# EAGLE library part TLV9102IPWR (library TLV9102IPWR)
Dual 1MHz, 16-V rail-to-rail input/output, low-offset voltage, low-power op amp Source: Datasheet <http://www.ti.com/lit/gpn/TLV9102>
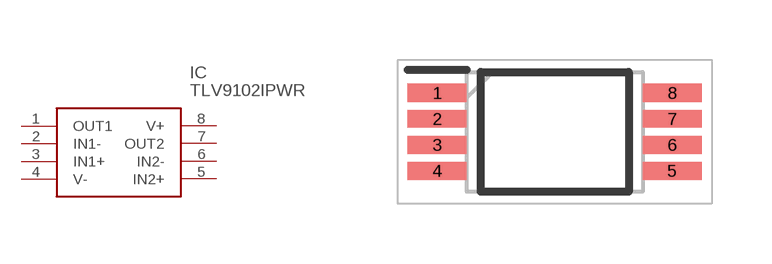
[diagram p0: symbol with the pads of SOP65P640X120-8N; footprint SOP65P640X120-8N]

Designator prefix IC

## TLV9102IPWR (Description: Dual 1MHz, 16-V rail-to-rail input/output, low-offset voltage, low-power op amp; Height: 1.2mm; Manufacturer_Name: Texas Instruments; Manufacturer_Part_Number: TLV9102IPWR; Mouser_Part_Number: 595-TLV9102IPWR; Mouser_Price-Stock: https://www.mouser.co.uk/ProductDetail/Texas-Instruments/TLV9102IPWR?qs=9r4v7xj2LnnLM2E8pIcWlQ%3D%3D)  [SOP65P640X120-8N]
1  OUT1
2  IN1-
3  IN1+
4  V-
5  IN2+
6  IN2-
7  OUT2
8  V+

## Footprint SOP65P640X120-8N (pad centres in mm)
PW0008A TSSOP
smd 1.475 x 0.45: 1 -2.938,0.975; 2 -2.938,0.325; 3 -2.938,-0.325; 4 -2.938,-0.975; 5 2.938,-0.975; 6 2.938,-0.325; 7 2.938,0.325; 8 2.938,0.975